# Altium footprint library 2013-10-24_00-36-33.PcbLib: 1 footprints
Each footprint in its own frame and in the unit in brackets; x right, y up, seen from the top. Pads: shape width x height; smd on the part's side, far side on the other; paste and mask are expansions set on the pad; w line width, h text height; cw(c..) or ccw(c..) is an arc to the next point about the centre after c.
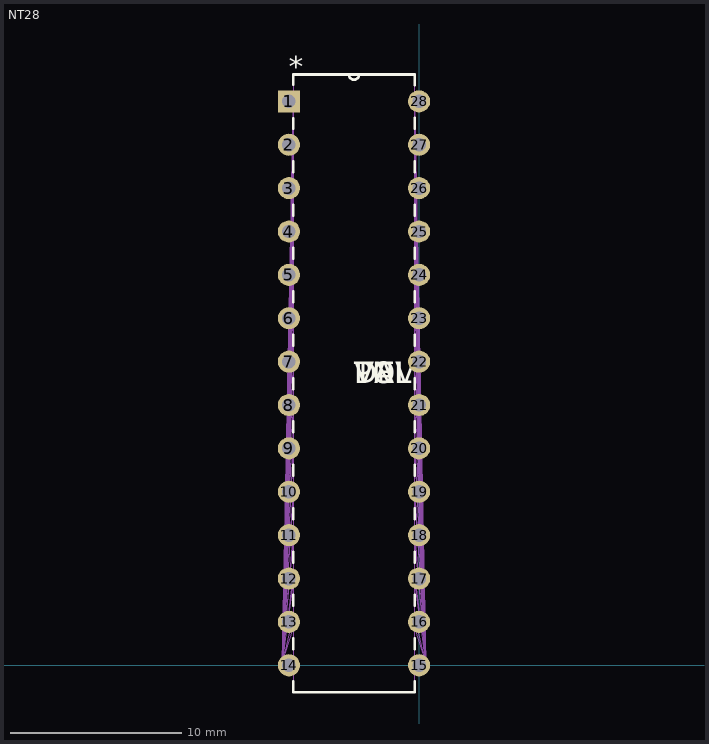
[diagram p0: the footprint, top view; thin cyan lines are the x and y axes]

## NT28 [mil]
pads (28):
  rect 51x51 / inner round 60 / far side rect 51x51 hole 31: 1(-300,1300)
  round 51 / inner round 60 / far side round 51 hole 31: 2(-300,1200) 3(-300,1100) 4(-300,1000) 5(-300,900) 6(-300,800) 7(-300,700) 8(-300,600) 9(-300,500) 10(-300,400) 11(-300,300) 12(-300,200) 13(-300,100) 14(-300,0) 15(0,0) 16(0,100) 17(0,200) 18(0,300) 19(0,400) 20(0,500) 21(0,600) 22(0,700) 23(0,800) 24(0,900) 25(0,1000) 26(0,1100) 27(0,1200) 28(0,1300)
Top Overlay:
  lines w6: -290,-37 -290,-62 -10,-62 -10,-37 ; -290,37 -290,62 ; -290,137 -290,162 ; -290,237 -290,262 ; -290,337 -290,362 ; -290,437 -290,462 ; -290,537 -290,562 ; -290,637 -290,662 ; -290,737 -290,762 ; -290,837 -290,862 ; -290,937 -290,962 ; -290,1037 -290,1062 ; -290,1137 -290,1162 ; -290,1237 -290,1261 ; -290,1338 -290,1362 -10,1362 -10,1337 ; -162,1362 ccw(c-150,1362) -138,1362 ; -10,37 -10,62 ; -10,137 -10,162 ; -10,237 -10,262 ; -10,337 -10,362 ; -10,437 -10,462 ; -10,537 -10,562 ; -10,637 -10,662 ; -10,737 -10,762 ; -10,837 -10,862 ; -10,937 -10,962 ; -10,1037 -10,1062 ; -10,1137 -10,1162 ; -10,1237 -10,1262
  text "*" at -300,1355 h50
  text "PN" at -150,650 h50
  text "DEV" at -150,650 h50
  text "VAL" at -150,650 h50
  text "TOL" at -150,650 h50
Mechanical 1:
  lines w0: -162,1362 ccw(c-150,1362) -138,1362 ; -315,5 -290,1315 -290,1284 -315,5 ; -315,5 -315,5 ; -315,5 -290,1215 -290,1184 -315,5 ; -315,5 -315,5 ; -315,5 -290,1115 -290,1084 -315,5 ; -315,5 -315,5 ; -315,5 -290,1015 -290,984 -315,5 ; -315,5 -315,5 ; -315,5 -290,915 -290,884 -315,5 ; -315,5 -315,5 ; -315,5 -290,815 -290,784 -315,5 ; -315,5 -315,5 ; -315,5 -290,715 -290,684 -315,5 ; -315,5 -315,5 ; -315,5 -290,615 -290,584 -315,5 ; -315,5 -315,5 ; -315,5 -290,515 -290,484 -315,5 ; -315,5 -315,5 ; -315,5 -290,415 -290,384 -315,5 ; -315,5 -315,5 ; -315,5 -290,315 -290,284 -315,5 ; -315,5 -315,5 ; -315,5 -290,215 -290,184 -315,5 ; -315,5 -315,5 ; -315,5 -290,115 -290,84 -315,5 ; -315,5 -315,5 ; -315,5 -290,15 -290,-15 -315,5 ; -315,5 -315,5 ; 15,5 -10,-15 -10,15 15,5 ; 15,5 15,5 ; 15,5 -10,84 -10,115 15,5 ; 15,5 15,5 ; 15,5 -10,184 -10,215 15,5 ; 15,5 15,5 ; 15,5 -10,284 -10,315 15,5 ; 15,5 15,5 ; 15,5 -10,384 -10,415 15,5 ; 15,5 15,5 ; 15,5 -10,484 -10,515 15,5 ; 15,5 15,5 ; 15,5 -10,584 -10,615 15,5 ; 15,5 15,5 ; 15,5 -10,684 -10,715 15,5 ; 15,5 15,5 ; 15,5 -10,784 -10,815 15,5 ; 15,5 15,5 ; 15,5 -10,884 -10,915 15,5 ; 15,5 15,5 ; 15,5 -10,984 -10,1015 15,5 ; 15,5 15,5 ; 15,5 -10,1084 -10,1115 15,5 ; 15,5 15,5 ; 15,5 -10,1184 -10,1215 15,5 ; 15,5 15,5 ; 15,5 -10,1284 -10,1315 15,5 ; 15,5 15,5 ; -290,-62 -10,-62 -10,1362 -290,1362 -290,-62
  text "*" at -300,1355 h50
  text "RefDes2" at -150,650 h50